# EAGLE library part SYNAPSEWIRELESS-RFENGINE (library 0_jc-custom-eagle6)
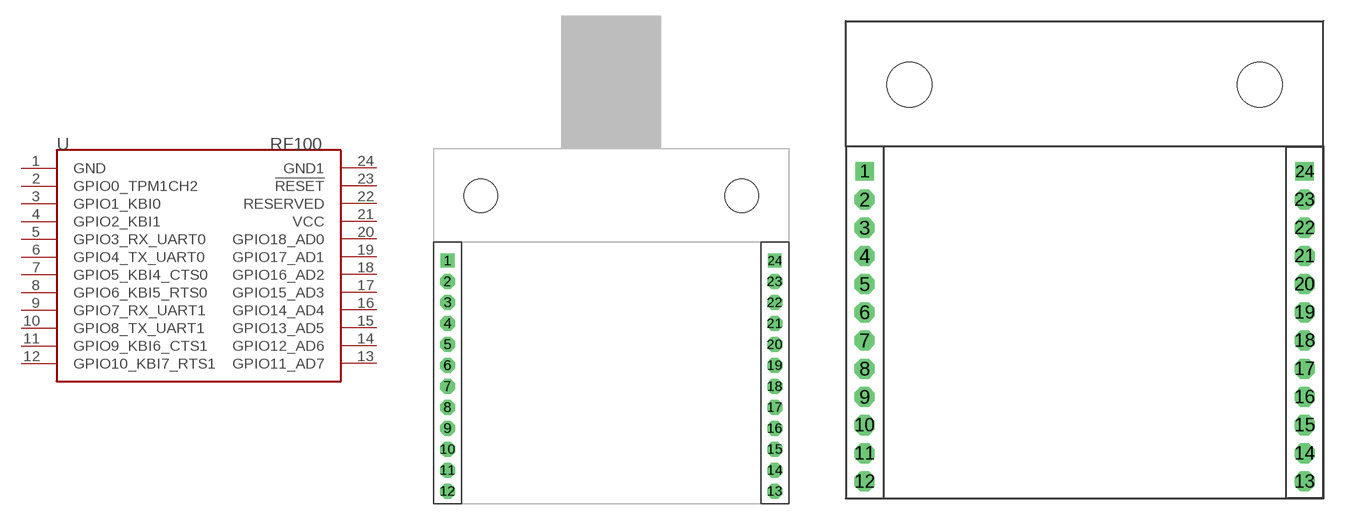
[diagram p0: symbol with the pads of SYNAPSERFENGINE-THM; footprints SYNAPSERFENGINE-THM, SYNAPSERFENGINE-THM-SILKTPLACE]

Designator prefix -

## SYNAPSEWIRELESS-RFENGINESTDTHM  [SYNAPSERFENGINE-THM]
1  GND
2  GPIO0_TPM1CH2
3  GPIO1_KBI0
4  GPIO2_KBI1
5  GPIO3_RX_UART0
6  GPIO4_TX_UART0
7  GPIO5_KBI4_CTS0
8  GPIO6_KBI5_RTS0
9  GPIO7_RX_UART1
10  GPIO8_TX_UART1
11  GPIO9_KBI6_CTS1
12  GPIO10_KBI7_RTS1
13  GPIO11_AD7
14  GPIO12_AD6
15  GPIO13_AD5
16  GPIO14_AD4
17  GPIO15_AD3
18  GPIO16_AD2
19  GPIO17_AD1
20  GPIO18_AD0
21  VCC
22  RESERVED
23  !RESET
24  GND1

## SYNAPSEWIRELESS-RFENGINETHM-SILK-TPLACE  [SYNAPSERFENGINE-THM-SILKTPLACE]
Pads as for SYNAPSERFENGINE-THM

## SYNAPSEWIRELESS-RFENGINE  [SYNAPSERFENGINE-THM-SMT]
Pads as for SYNAPSERFENGINE-THM

## SYNAPSEWIRELESS-RFENGINEINNERPADS  [SYNAPSERFENGINE-THM-SMT-JACK]
Pads as for SYNAPSERFENGINE-THM

## Footprint SYNAPSERFENGINE-THM (pad centres in mm)
Synapse Wireless RF Engine Through Hole Mount
drill 0.8 square: 1 0,0; 24 31.2,0
drill 0.8 pad 1.422 octagon: 2 0,-2; 3 0,-4; 4 0,-6; 5 0,-8; 6 0,-10; 7 0,-12; 8 0,-14; 9 0,-16; 10 0,-18; 11 0,-20; 12 0,-22; 13 31.2,-22; 14 31.2,-20; 15 31.2,-18; 16 31.2,-16; 17 31.2,-14; 18 31.2,-12; 19 31.2,-10; 20 31.2,-8; 21 31.2,-6; 22 31.2,-4; 23 31.2,-2
hole 3.2 at 3.17,6.16
hole 3.2 at 28.03,6.16

## Footprint SYNAPSERFENGINE-THM-SILKTPLACE (pad centres in mm)
drill 0.8 square: 1 0,0; 24 31.2,0
drill 0.8 pad 1.422 octagon: 2 0,-2; 3 0,-4; 4 0,-6; 5 0,-8; 6 0,-10; 7 0,-12; 8 0,-14; 9 0,-16; 10 0,-18; 11 0,-20; 12 0,-22; 13 31.2,-22; 14 31.2,-20; 15 31.2,-18; 16 31.2,-16; 17 31.2,-14; 18 31.2,-12; 19 31.2,-10; 20 31.2,-8; 21 31.2,-6; 22 31.2,-4; 23 31.2,-2
hole 3.2 at 3.17,6.16
hole 3.2 at 28.03,6.16

## Footprint SYNAPSERFENGINE-THM-SMT (pad centres in mm)
drill 0.8 square: 1 0,0; 24 31.2,0
drill 0.8 pad 1.422 octagon: 2 0,-2; 3 0,-4; 4 0,-6; 5 0,-8; 6 0,-10; 7 0,-12; 8 0,-14; 9 0,-16; 10 0,-18; 11 0,-20; 12 0,-22; 13 31.2,-22; 14 31.2,-20; 15 31.2,-18; 16 31.2,-16; 17 31.2,-14; 18 31.2,-12; 19 31.2,-10; 20 31.2,-8; 21 31.2,-6; 22 31.2,-4; 23 31.2,-2
smd 1.67 x 0.89: P1 1.3,0; P2 -1.3,-2; P3 1.3,-4; P4 -1.3,-6; P5 1.3,-8; P6 -1.3,-10; P7 1.3,-12; P8 -1.3,-14; P9 1.3,-16; P10 -1.3,-18; P11 1.3,-20; P12 -1.3,-22; P13 29.9,-22; P14 32.5,-20; P15 29.9,-18; P16 32.5,-16; P17 29.9,-14; P18 32.5,-12; P19 29.9,-10; P20 32.5,-8; P21 29.9,-6; P22 32.5,-4; P23 29.9,-2; P24 32.5,0
hole 3.2 at 3.17,6.16
hole 3.2 at 28.03,6.16

## Footprint SYNAPSERFENGINE-THM-SMT-JACK (pad centres in mm)
drill 0.8 square: 1 0,0; 24 31.2,0
drill 0.8 pad 1.422 octagon: 2 0,-2; 3 0,-4; 4 0,-6; 5 0,-8; 6 0,-10; 7 0,-12; 8 0,-14; 9 0,-16; 10 0,-18; 11 0,-20; 12 0,-22; 13 31.2,-22; 14 31.2,-20; 15 31.2,-18; 16 31.2,-16; 17 31.2,-14; 18 31.2,-12; 19 31.2,-10; 20 31.2,-8; 21 31.2,-6; 22 31.2,-4; 23 31.2,-2
smd 1.67 x 0.89: P1 1.3,0; P2 -1.3,-2; P3 1.3,-4; P4 -1.3,-6; P5 1.3,-8; P6 -1.3,-10; P7 1.3,-12; P8 -1.3,-14; P9 1.3,-16; P10 -1.3,-18; P11 1.3,-20; P12 -1.3,-22; P13 29.9,-22; P14 32.5,-20; P15 29.9,-18; P16 32.5,-16; P17 29.9,-14; P18 32.5,-12; P19 29.9,-10; P20 32.5,-8; P21 29.9,-6; P22 32.5,-4; P23 29.9,-2; P24 32.5,0
smd 1.27 x 0.635: P$1 3.5,0; P$2 3.5,-2; P$3 3.5,-4; P$4 3.5,-6; P$5 3.5,-8; P$6 3.5,-10; P$7 3.5,-12; P$8 3.5,-14; P$9 3.5,-16; P$10 3.5,-18; P$11 3.5,-20; P$12 3.5,-22; P$13 27.5,0; P$14 27.5,-2; P$15 27.5,-4; P$16 27.5,-6; P$17 27.5,-8; P$18 27.5,-10; P$19 27.5,-12; P$20 27.5,-14; P$21 27.5,-16; P$22 27.5,-18; P$23 27.5,-20; P$24 27.5,-22
hole 3.2 at 3.17,6.16
hole 3.2 at 28.03,6.16